# EAGLE library part MGLS128128 (library Ketturi electronics)
MGLS128128-03C 128 x 128 dots STN Positive Transflective Yellow LCD Graphic Module Driving scheme: 1/128 duty, 1/12.4 bias Vieving Angle 6 o'clock. Toshiba T5953C LCD controller 8K byte display RAM Yellow-Green LED04 backlight (10mm high) 500mA 4.1V
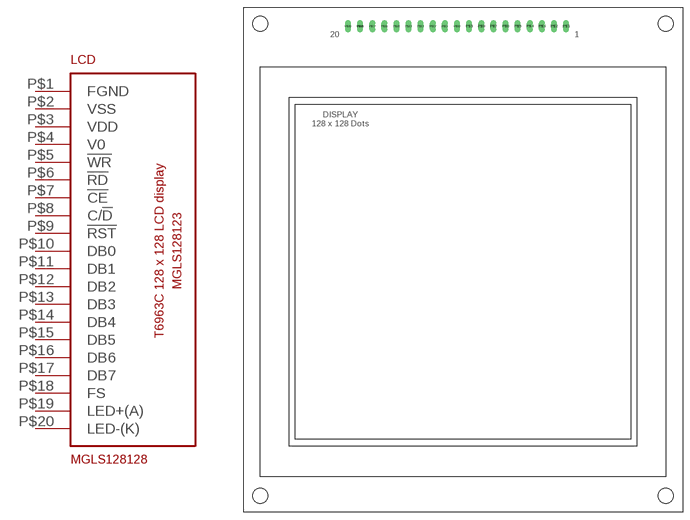
[diagram p12: symbol with the pads of MGLS128128; footprint MGLS128128]

Designator prefix LCD

## MGLS128128  [MGLS128128]
P$1  FGND  pwr
P$2  VSS  pwr
P$3  VDD  pwr
P$4  V0  pwr
P$5  !WR  in
P$6  !RD  in
P$7  !CE  in
P$8  C/!D  in
P$9  !RST  in
P$10  DB0
P$11  DB1
P$12  DB2
P$13  DB3
P$14  DB4
P$15  DB5
P$16  DB6
P$17  DB7
P$18  FS  in
P$19  LED+(A)  pwr
P$20  LED-(K)  pwr

## Footprint MGLS128128 (pad centres in mm)
drill 0.8 long: P$1 67.6,102; P$2 65.06,102; P$3 62.52,102; P$4 59.98,102; P$5 57.44,102; P$6 54.9,102; P$7 52.36,102; P$8 49.82,102; P$9 47.28,102; P$10 44.74,102; P$11 42.2,102; P$12 39.66,102; P$13 37.12,102; P$14 34.58,102; P$15 32.04,102; P$16 29.5,102; P$17 26.96,102; P$18 24.42,102; P$19 24.42,102; P$20 21.88,102
hole 3.2 at 3.5,3.5
hole 3.2 at 88.5,3.5
hole 3.2 at 3.5,102.5
hole 3.2 at 88.5,102.5